# EAGLE library part GAMEBOYZEROHANDHELDDISPLAYS-2.4 (library GameboyZeroHandheldDisplays)
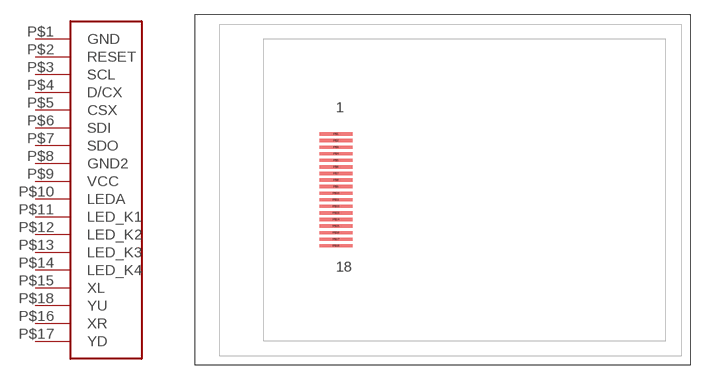
[diagram p4: symbol with the pads of GAMEBOYZEROHANDHELDDISPLAYS-2.4; footprint GAMEBOYZEROHANDHELDDISPLAYS-2.4]

Designator prefix -

## GAMEBOYZEROHANDHELDDISPLAYS-2.4  [GAMEBOYZEROHANDHELDDISPLAYS-2.4]
P$1  GND
P$2  RESET
P$3  SCL
P$4  D/CX
P$5  CSX
P$6  SDI
P$7  SDO
P$8  GND2
P$9  VCC
P$10  LEDA
P$11  LED_K1
P$12  LED_K2
P$13  LED_K3
P$14  LED_K4
P$15  XL
P$16  XR
P$17  YD
P$18  YU

## Footprint GAMEBOYZEROHANDHELDDISPLAYS-2.4 (pad centres in mm)
Gameboy Zero Handheld Displays - 2.8 Inch connector for ili9341 screens with SPI interface
smd 4 x 0.4: P$1 -13,6.8; P$2 -13,6; P$3 -13,5.2; P$4 -13,4.4; P$5 -13,3.6; P$6 -13,2.8; P$7 -13,2; P$8 -13,1.2; P$9 -13,0.4; P$10 -13,-0.4; P$11 -13,-1.2; P$12 -13,-2; P$13 -13,-2.8; P$14 -13,-3.6; P$15 -13,-4.4; P$16 -13,-5.2; P$17 -13,-6; P$18 -13,-6.8